# Altium integrated library TI Power Management Linear Regulator Single Channel LDO (0-350mA).IntLib: 1648 symbols (part 17 of 66)
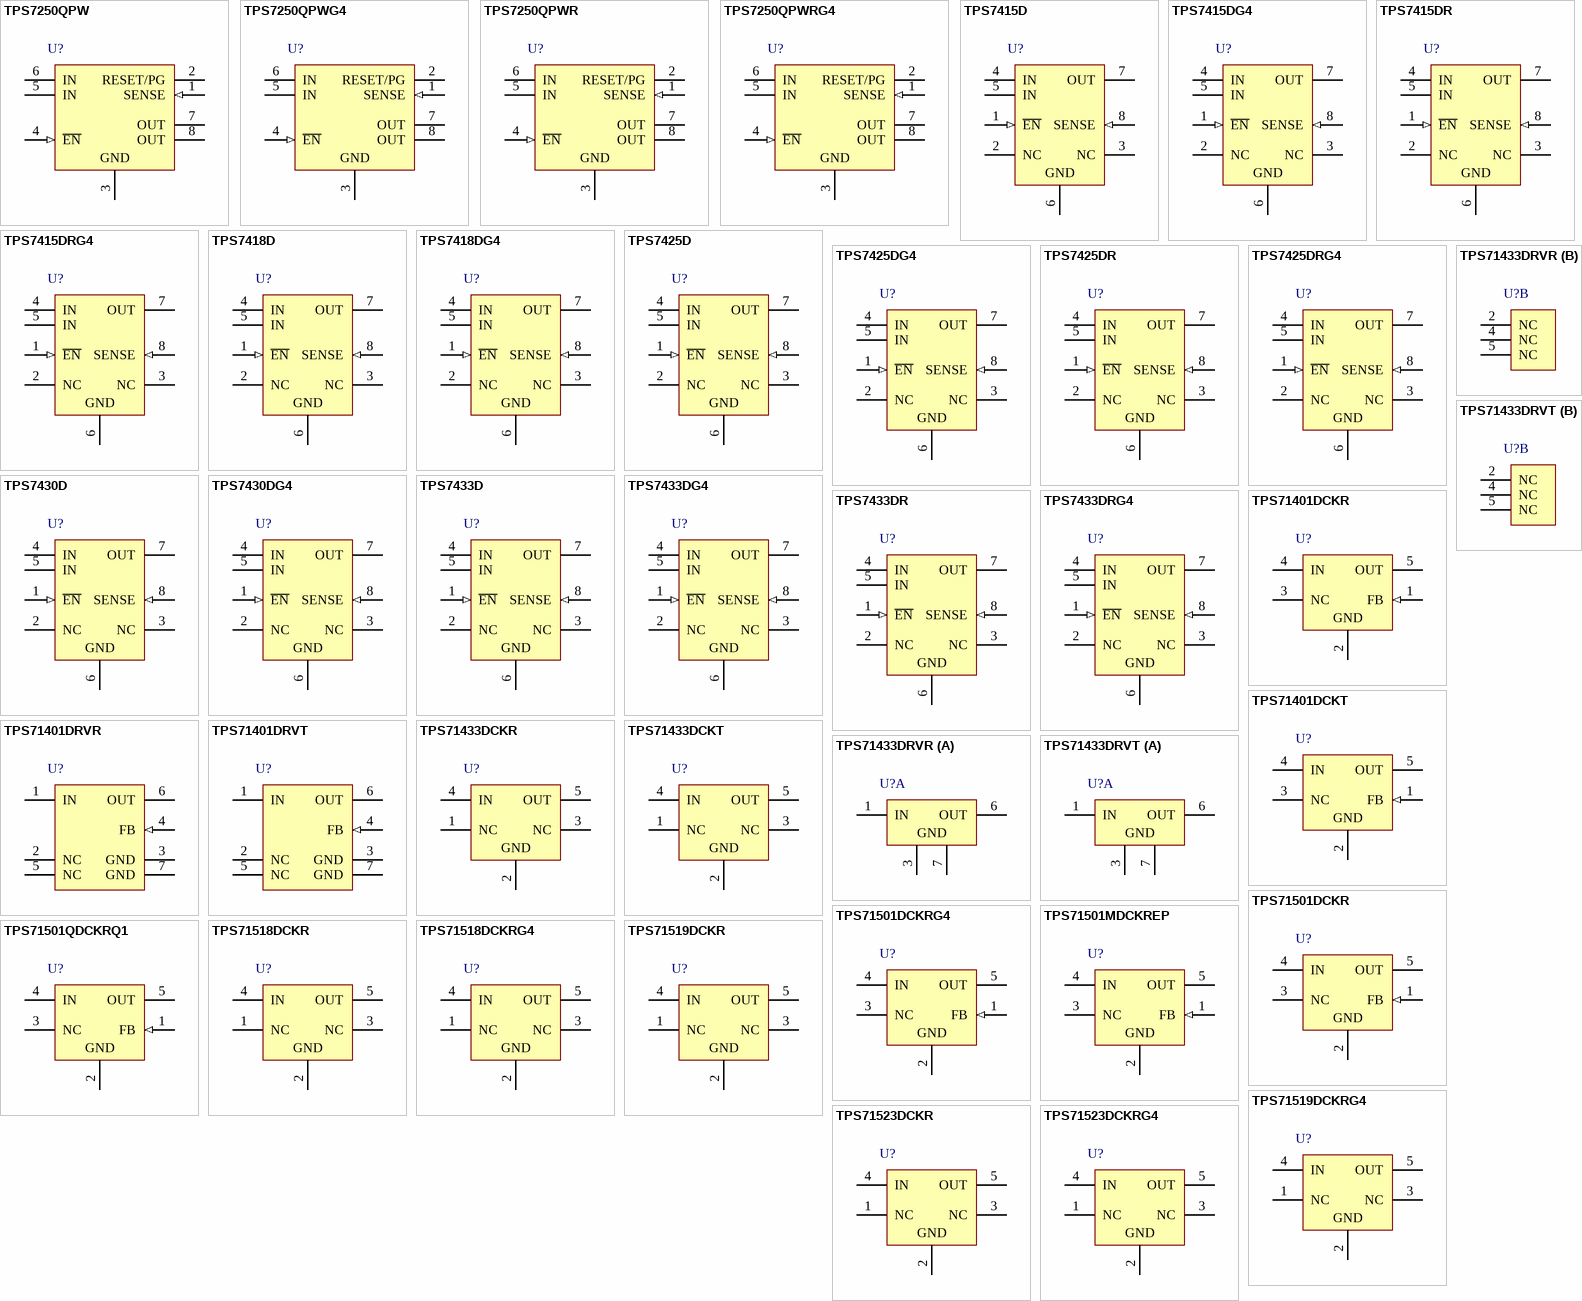
[diagram p58: symbols TPS7250QPW to TPS71523DCKRG4]

## TPS71401DRVR
designator U?
Single Output LDO, 80 mA, Adjustable 1.2 to 8.8 V Output, 2.5 to 10 V Input, with Low IQ, 6-pin SON (DRV), -40 to 125 degC, Green (RoHS & no Sb/Br); Manufacturer: Texas Instruments; PartNumber: TPS71401DRVR; Accuracy(%): 4; Fixed Output Options(V): 3.3; Iout(Max)(A): 0.08; Iq(Typ)(mA): 0.003; Rating: Catalog; SubFamily: Single Channel LDO; Vdo(Typ)(mV): 670; Vin(Max)(V): 10; Vin(Min)(V): 2.5; Vout Adj(Max)(V): 8.8; Vout Adj(Min)(V): 1.2; DatasheetVersion: SBVS116C; PackageVersion: 4206925/E; PackageReference: DRV6-1600X1000TP; PackageDescription: 6-Pin Plastic Small Outline No-Lead, Body 2 x 2 mm, Pitch 0.65 mm; Supplier 1: Digi-Key; Supplier Part Number 1: 296-24039-2-ND; Supplier 2: Digi-Key; Supplier Part Number 2: 296-24039-1-ND; Supplier 3: Digi-Key; Supplier Part Number 3: 296-24039-6-ND; Supplier 4: Mouser; Supplier Part Number 4: 595-TPS71401DRVR; Eco-Plan: Green (RoHS & no Sb/Br); Mounting Technology: Surface Mount; ComponentLink1Description: Manufacturer URL; ComponentLink1URL: http://www.ti.com/; ComponentLink2Description: Datasheet; ComponentLink2URL: http://www.ti.com/general/docs/lit/getliterature.tsp?genericPartNumber=TPS71401&fileType=pdf; ComponentLink3Description: Package Specification; ComponentLink3URL: http://www.ti.com/litv/pdf/mpds216d; ComponentLink4Description: URL Link1; ComponentLink4URL: Samples URL:http://www.ti.com/product/tps71401#samples
footprint TI-DRV6-1600X1000TP_V (SON, 6-Leads, Body 2x2mm, Pitch 0.65mm, Thermal Pad 1X1.6mm)
pins: 1 IN (power) "Unregulated input voltage.", 2 NC "No connection. May be left open or tied to ground for improved thermal performance.", 3 GND (power) "Ground", 4 FB (in) "Adjustable version only. This pin is used to set the output voltage.", 5 NC "No connection. May be left open or tied to ground for improved thermal performance.", 6 OUT (power) "Regulated output voltage. Any output capacitor >= 0.47uF can be used for stability.", 7 GND (power) "Ground"

## TPS71401DRVT
designator U?
Single Output LDO, 80 mA, Adjustable 1.2 to 8.8 V Output, 2.5 to 10 V Input, with Low IQ, 6-pin SON (DRV), -40 to 125 degC, Green (RoHS & no Sb/Br); Manufacturer: Texas Instruments; PartNumber: TPS71401DRVT; Accuracy(%): 4; Fixed Output Options(V): 3.3; Iout(Max)(A): 0.08; Iq(Typ)(mA): 0.003; Rating: Catalog; SubFamily: Single Channel LDO; Vdo(Typ)(mV): 670; Vin(Max)(V): 10; Vin(Min)(V): 2.5; Vout Adj(Max)(V): 8.8; Vout Adj(Min)(V): 1.2; DatasheetVersion: SBVS116C; PackageVersion: 4206925/E; PackageReference: DRV6-1600X1000TP; PackageDescription: 6-Pin Plastic Small Outline No-Lead, Body 2 x 2 mm, Pitch 0.65 mm; Supplier 1: Digi-Key; Supplier Part Number 1: 296-32531-2-ND; Supplier 2: Digi-Key; Supplier Part Number 2: 296-32531-1-ND; Supplier 3: Digi-Key; Supplier Part Number 3: 296-32531-6-ND; Supplier 4: Newark; Supplier Part Number 4: 45P2942; Supplier 5: Mouser; Supplier Part Number 5: 595-TPS71401DRVT; Eco-Plan: Green (RoHS & no Sb/Br); Mounting Technology: Surface Mount; ComponentLink1Description: Manufacturer URL; ComponentLink1URL: http://www.ti.com/; ComponentLink2Description: Datasheet; ComponentLink2URL: http://www.ti.com/general/docs/lit/getliterature.tsp?genericPartNumber=TPS71401&fileType=pdf; ComponentLink3Description: Package Specification; ComponentLink3URL: http://www.ti.com/litv/pdf/mpds216d; ComponentLink4Description: URL Link1; ComponentLink4URL: Samples URL:http://www.ti.com/product/tps71401#samples
footprint TI-DRV6-1600X1000TP_V (SON, 6-Leads, Body 2x2mm, Pitch 0.65mm, Thermal Pad 1X1.6mm)
pins: 1 IN (power) "Unregulated input voltage.", 2 NC "No connection. May be left open or tied to ground for improved thermal performance.", 3 GND (power) "Ground", 4 FB (in) "Adjustable version only. This pin is used to set the output voltage.", 5 NC "No connection. May be left open or tied to ground for improved thermal performance.", 6 OUT (power) "Regulated output voltage. Any output capacitor >= 0.47uF can be used for stability.", 7 GND (power) "Ground"

## TPS71433DCKR
designator U?
Single Output LDO, 80 mA, Fixed 3.3 V Output, 2.5 to 10 V Input, with Low IQ, 5-pin SC70 (DCK), -40 to 125 degC, Green (RoHS & no Sb/Br); Manufacturer: Texas Instruments; PartNumber: TPS71433DCKR; Accuracy(%): 4; Fixed Output Options(V): 3.3; Iout(Max)(A): 0.08; Iq(Typ)(mA): 0.003; Rating: Catalog; SubFamily: Single Channel LDO; Vdo(Typ)(mV): 670; Vin(Max)(V): 10; Vin(Min)(V): 2.5; DatasheetVersion: SBVS116C; PackageVersion: 4093553-3/G; PackageReference: DCK5; PackageDescription: 5-Pin Plastic Small-Outline, Body 2 x 1.25 mm, Pitch 0.65 mm; Supplier 1: Digi-Key; Supplier Part Number 1: TPS71433DCKR-ND; Supplier 2: Mouser; Supplier Part Number 2: 595-TPS71433DCKR; Eco-Plan: Green (RoHS & no Sb/Br); Vout Adj(Max)(V): 3.3; Vout Adj(Min)(V): 3.3; Mounting Technology: Surface Mount; Code_JEDEC: MO-203; ComponentLink1Description: Manufacturer URL; ComponentLink1URL: http://www.ti.com/; ComponentLink2Description: Datasheet; ComponentLink2URL: http://www.ti.com/general/docs/lit/getliterature.tsp?genericPartNumber=TPS71433&fileType=pdf; ComponentLink3Description: Package Specification; ComponentLink3URL: http://www.ti.com/litv/pdf/mpds025f; ComponentLink4Description: URL Link1; ComponentLink4URL: Samples URL:http://www.ti.com/product/tps71433#samples
footprint TI-DCK5_V (SOT23, 5-Leads, Body 2x1.25mm, Pitch 0.65mm)
pins: 1 NC "No connection", 2 GND (power) "Ground", 3 NC "No connection", 4 IN (power) "Input supply", 5 OUT (power) "Output of the regulator, any output capacitor >= 0.47 uF can be used for stability."

## TPS71433DCKT
designator U?
Single Output LDO, 80 mA, Fixed 3.3 V Output, 2.5 to 10 V Input, with Low IQ, 5-pin SC70 (DCK), -40 to 125 degC, Green (RoHS & no Sb/Br); Manufacturer: Texas Instruments; PartNumber: TPS71433DCKT; Accuracy(%): 4; Fixed Output Options(V): 3.3; Iout(Max)(A): 0.08; Iq(Typ)(mA): 0.003; Rating: Catalog; SubFamily: Single Channel LDO; Vdo(Typ)(mV): 670; Vin(Max)(V): 10; Vin(Min)(V): 2.5; DatasheetVersion: SBVS116C; PackageVersion: 4093553-3/G; PackageReference: DCK5; PackageDescription: 5-Pin Plastic Small-Outline, Body 2 x 1.25 mm, Pitch 0.65 mm; Supplier 1: Digi-Key; Supplier Part Number 1: 296-24451-2-ND; Supplier 2: Digi-Key; Supplier Part Number 2: 296-24451-1-ND; Supplier 3: Digi-Key; Supplier Part Number 3: 296-24451-6-ND; Supplier 4: Newark; Supplier Part Number 4: 09R6697; Supplier 5: Mouser; Supplier Part Number 5: 595-TPS71433DCKT; Eco-Plan: Green (RoHS & no Sb/Br); Vout Adj(Max)(V): 3.3; Vout Adj(Min)(V): 3.3; Mounting Technology: Surface Mount; Code_JEDEC: MO-203; ComponentLink1Description: Manufacturer URL; ComponentLink1URL: http://www.ti.com/; ComponentLink2Description: Datasheet; ComponentLink2URL: http://www.ti.com/general/docs/lit/getliterature.tsp?genericPartNumber=TPS71433&fileType=pdf; ComponentLink3Description: Package Specification; ComponentLink3URL: http://www.ti.com/litv/pdf/mpds025f; ComponentLink4Description: URL Link1; ComponentLink4URL: Samples URL:http://www.ti.com/product/tps71433#samples
footprint TI-DCK5_V (SOT23, 5-Leads, Body 2x1.25mm, Pitch 0.65mm)
pins: 1 NC "No connection", 2 GND (power) "Ground", 3 NC "No connection", 4 IN (power) "Input supply", 5 OUT (power) "Output of the regulator, any output capacitor >= 0.47 uF can be used for stability."

## TPS71433DRVR
designator U?
Single Output LDO, 80 mA, Fixed 3.3 V Output, 2.5 to 10 V Input, with Low IQ, 6-pin SON (DRV), -40 to 125 degC, Green (RoHS & no Sb/Br); Manufacturer: Texas Instruments; PartNumber: TPS71433DRVR; Accuracy(%): 4; Fixed Output Options(V): 3.3; Iout(Max)(A): 0.08; Iq(Typ)(mA): 0.003; Rating: Catalog; SubFamily: Single Channel LDO; Vdo(Typ)(mV): 670; Vin(Max)(V): 10; Vin(Min)(V): 2.5; DatasheetVersion: SBVS116C; PackageVersion: 4206925/E; PackageReference: DRV6-1600X1000TP; PackageDescription: 6-Pin Plastic Small Outline No-Lead, Body 2 x 2 mm, Pitch 0.65 mm; Supplier 1: Digi-Key; Supplier Part Number 1: 296-24040-2-ND; Supplier 2: Digi-Key; Supplier Part Number 2: 296-24040-1-ND; Supplier 3: Digi-Key; Supplier Part Number 3: 296-24040-6-ND; Supplier 4: Newark; Supplier Part Number 4: 45P8294; Supplier 5: Mouser; Supplier Part Number 5: 595-TPS71433DRVR; Eco-Plan: Green (RoHS & no Sb/Br); Vout Adj(Max)(V): 3.3; Vout Adj(Min)(V): 3.3; Mounting Technology: Surface Mount; ComponentLink1Description: Manufacturer URL; ComponentLink1URL: http://www.ti.com/; ComponentLink2Description: Datasheet; ComponentLink2URL: http://www.ti.com/general/docs/lit/getliterature.tsp?genericPartNumber=TPS71433&fileType=pdf; ComponentLink3Description: Package Specification; ComponentLink3URL: http://www.ti.com/litv/pdf/mpds216d; ComponentLink4Description: URL Link1; ComponentLink4URL: Samples URL:http://www.ti.com/product/tps71433#samples
footprint TI-DRV6-1600X1000TP_V (SON, 6-Leads, Body 2x2mm, Pitch 0.65mm, Thermal Pad 1X1.6mm)
part A pins: 1 IN (power) "Unregulated input voltage.", 3 GND (power) "Ground", 6 OUT (power) "Regulated output voltage, any output capacitor >= 0.47uF can be used for stability.", 7 GND (power) "Ground"
part B pins: 2 NC "No connection. May be left open or tied to ground for improved thermal performance.", 4 NC "No connection. May be left open or tied to Ground for improved thermal performance.", 5 NC "No connection. May be left open or tied to ground for improved thermal performance."

## TPS71433DRVT
designator U?
Single Output LDO, 80 mA, Fixed 3.3 V Output, 2.5 to 10 V Input, with Low IQ, 6-pin SON (DRV), -40 to 125 degC, Green (RoHS & no Sb/Br); Manufacturer: Texas Instruments; PartNumber: TPS71433DRVT; Accuracy(%): 4; Fixed Output Options(V): 3.3; Iout(Max)(A): 0.08; Iq(Typ)(mA): 0.003; Rating: Catalog; SubFamily: Single Channel LDO; Vdo(Typ)(mV): 670; Vin(Max)(V): 10; Vin(Min)(V): 2.5; DatasheetVersion: SBVS116C; PackageVersion: 4206925/E; PackageReference: DRV6-1600X1000TP; PackageDescription: 6-Pin Plastic Small Outline No-Lead, Body 2 x 2 mm, Pitch 0.65 mm; Supplier 1: Digi-Key; Supplier Part Number 1: 296-32532-2-ND; Supplier 2: Digi-Key; Supplier Part Number 2: 296-32532-1-ND; Supplier 3: Digi-Key; Supplier Part Number 3: 296-32532-6-ND; Supplier 4: Farnell; Supplier Part Number 4: 1694435RL; Supplier 5: Farnell; Supplier Part Number 5: 1694435; Supplier 6: Newark; Supplier Part Number 6: 45P2943; Supplier 7: Mouser; Supplier Part Number 7: 595-TPS71433DRVT; Eco-Plan: Green (RoHS & no Sb/Br); Vout Adj(Max)(V): 3.3; Vout Adj(Min)(V): 3.3; Mounting Technology: Surface Mount; ComponentLink1Description: Manufacturer URL; ComponentLink1URL: http://www.ti.com/; ComponentLink2Description: Datasheet; ComponentLink2URL: http://www.ti.com/general/docs/lit/getliterature.tsp?genericPartNumber=TPS71433&fileType=pdf; ComponentLink3Description: Package Specification; ComponentLink3URL: http://www.ti.com/litv/pdf/mpds216d; ComponentLink4Description: URL Link1; ComponentLink4URL: Samples URL:http://www.ti.com/product/tps71433#samples
footprint TI-DRV6-1600X1000TP_V (SON, 6-Leads, Body 2x2mm, Pitch 0.65mm, Thermal Pad 1X1.6mm)
part A pins: 1 IN (power) "Unregulated input voltage.", 3 GND (power) "Ground", 6 OUT (power) "Regulated output voltage, any output capacitor >= 0.47uF can be used for stability.", 7 GND (power) "Ground"
part B pins: 2 NC "No connection. May be left open or tied to ground for improved thermal performance.", 4 NC "No connection. May be left open or tied to Ground for improved thermal performance.", 5 NC "No connection. May be left open or tied to ground for improved thermal performance."

## TPS71501DCKR
designator U?
Single Output LDO, 50 mA, Adjustable 1.2 to 15 V Output, 3 to 24 V Input, 5-pin SC70 (DCK), -40 to 125 degC, Green (RoHS & no Sb/Br); Manufacturer: Texas Instruments; PartNumber: TPS71501DCKR; Accuracy(%): 4; Iout(Max)(A): 0.05; Iq(Typ)(mA): 0.003; SubFamily: Single Channel LDO; Vdo(Typ)(mV): 415; Vin(Max)(V): 24; Vin(Min)(V): 3; Vout Adj(Max)(V): 15; Vout Adj(Min)(V): 1.2; DatasheetVersion: SLVS338P; PackageVersion: 4093553-3/G; PackageReference: DCK5; PackageDescription: 5-Pin Plastic Small-Outline, Body 2 x 1.25 mm, Pitch 0.65 mm; Supplier 1: Digi-Key; Supplier Part Number 1: 296-12957-2-ND; Supplier 2: Digi-Key; Supplier Part Number 2: 296-12957-1-ND; Supplier 3: Digi-Key; Supplier Part Number 3: 296-12957-6-ND; Supplier 4: Farnell; Supplier Part Number 4: 1103056RL; Supplier 5: Farnell; Supplier Part Number 5: 1103056; Supplier 6: Newark; Supplier Part Number 6: 36K7664; Supplier 7: Mouser; Supplier Part Number 7: 595-TPS71501DCKR; Eco-Plan: Green (RoHS & no Sb/Br); Mounting Technology: Surface Mount; Code_JEDEC: MO-203; ComponentLink1Description: Manufacturer URL; ComponentLink1URL: http://www.ti.com/; ComponentLink2Description: Datasheet; ComponentLink2URL: http://www.ti.com/general/docs/lit/getliterature.tsp?genericPartNumber=TPS71501&fileType=pdf; ComponentLink3Description: Package Specification; ComponentLink3URL: http://www.ti.com/litv/pdf/mpds025f
footprint TI-DCK5_V (SOT23, 5-Leads, Body 2x1.25mm, Pitch 0.65mm)
pins: 1 FB (in) "Feedback. This terminal is used to set the output voltage.", 2 GND (power) "Ground", 3 NC "No connection", 4 IN (power) "Input supply", 5 OUT (power) "Output of the regulator, any output capacitor >= 0.47 uF can be used for stability."

## TPS71501DCKRG4
designator U?
Single Output LDO, 50 mA, Adjustable 1.2 to 15 V Output, 3 to 24 V Input, 5-pin SC70 (DCK), -40 to 125 degC, Green (RoHS & no Sb/Br); Manufacturer: Texas Instruments; PartNumber: TPS71501DCKRG4; Accuracy(%): 4; Iout(Max)(A): 0.05; Iq(Typ)(mA): 0.003; SubFamily: Single Channel LDO; Vdo(Typ)(mV): 415; Vin(Max)(V): 24; Vin(Min)(V): 3; Vout Adj(Max)(V): 15; Vout Adj(Min)(V): 1.2; DatasheetVersion: SLVS338P; PackageVersion: 4093553-3/G; PackageReference: DCK5; PackageDescription: 5-Pin Plastic Small-Outline, Body 2 x 1.25 mm, Pitch 0.65 mm; Supplier 1: Digi-Key; Supplier Part Number 1: TPS71501DCKRG4-ND; Supplier 2: Newark; Supplier Part Number 2: 71J8222; Supplier 3: Mouser; Supplier Part Number 3: 595-TPS71501DCKRG4; Eco-Plan: Green (RoHS & no Sb/Br); Mounting Technology: Surface Mount; Code_JEDEC: MO-203; ComponentLink1Description: Manufacturer URL; ComponentLink1URL: http://www.ti.com/; ComponentLink2Description: Datasheet; ComponentLink2URL: http://www.ti.com/general/docs/lit/getliterature.tsp?genericPartNumber=TPS71501&fileType=pdf; ComponentLink3Description: Package Specification; ComponentLink3URL: http://www.ti.com/litv/pdf/mpds025f
footprint TI-DCK5_V (SOT23, 5-Leads, Body 2x1.25mm, Pitch 0.65mm)
pins: 1 FB (in) "Feedback. This terminal is used to set the output voltage.", 2 GND (power) "Ground", 3 NC "No connection", 4 IN (power) "Input supply", 5 OUT (power) "Output of the regulator, any output capacitor >= 0.47 uF can be used for stability."

## TPS71501MDCKREP
designator U?
Single Output LDO, 50 mA, Adjustable 1.2 to 15 V Output, 3 to 24 V Input, 5-pin SC70 (DCK), -55 to 125 degC, Green (RoHS & no Sb/Br); Manufacturer: Texas Instruments; PartNumber: TPS71501MDCKREP; Accuracy(%): 4; Iout(Max)(A): 0.05; Iq(Typ)(mA): 0.003; SubFamily: Single Channel LDO; Vdo(Typ)(mV): 415; Vin(Max)(V): 24; Vin(Min)(V): 3; Vout Adj(Max)(V): 15; Vout Adj(Min)(V): 1.2; DatasheetVersion: SGLS396; PackageVersion: 4093553-3/G; PackageReference: DCK5; PackageDescription: 5-Pin Plastic Small-Outline, Body 2 x 1.25 mm, Pitch 0.65 mm; Supplier 1: Arrow; Supplier Part Number 1: 46898286S8191864N2415; Supplier 2: Digi-Key; Supplier Part Number 2: 296-23787-2-ND; Supplier 3: Digi-Key; Supplier Part Number 3: 296-23787-1-ND; Supplier 4: Digi-Key; Supplier Part Number 4: 296-23787-6-ND; Supplier 5: Newark; Supplier Part Number 5: 79R8605; Supplier 6: Mouser; Supplier Part Number 6: 595-TPS71501MDCKREP; Eco-Plan: Green (RoHS & no Sb/Br); Mounting Technology: Surface Mount; Code_JEDEC: MO-203; ComponentLink1Description: Manufacturer URL; ComponentLink1URL: http://www.ti.com/; ComponentLink2Description: Datasheet; ComponentLink2URL: http://www.ti.com/general/docs/lit/getliterature.tsp?genericPartNumber=TPS71501-EP&fileType=pdf; ComponentLink3Description: Package Specification; ComponentLink3URL: http://www.ti.com/litv/pdf/mpds025f
footprint TI-DCK5_V (SOT23, 5-Leads, Body 2x1.25mm, Pitch 0.65mm)
pins: 1 FB (in) "Feedback. This terminal is used to set the output voltage.", 2 GND (power) "Ground", 3 NC "No connection", 4 IN (power) "Input supply", 5 OUT (power) "Output of the regulator, any output capacitor >= 0.47 uF can be used for stability."

## TPS71501QDCKRQ1
designator U?
Single Output Automotive LDO, 50 mA, Adjustable 1.2 to 15 V Output, 3 to 24 V Input, 5-pin SC70 (DCK), -40 to 125 degC, Green (RoHS & no Sb/Br); Manufacturer: Texas Instruments; PartNumber: TPS71501QDCKRQ1; Accuracy(%): 4; Iout(Max)(A): 0.05; Iq(Typ)(mA): 0.003; SubFamily: Single Channel LDO; Vdo(Typ)(mV): 415; Vin(Max)(V): 24; Vin(Min)(V): 3; Vout Adj(Max)(V): 15; Vout Adj(Min)(V): 1.2; DatasheetVersion: SGLS272F; PackageVersion: 4093553-3/G; PackageReference: DCK5; PackageDescription: 5-Pin Plastic Small-Outline, Body 2 x 1.25 mm, Pitch 0.65 mm; Supplier 1: Digi-Key; Supplier Part Number 1: 296-17748-2-ND; Supplier 2: Digi-Key; Supplier Part Number 2: 296-17748-1-ND; Supplier 3: Digi-Key; Supplier Part Number 3: 296-17748-6-ND; Supplier 4: Newark; Supplier Part Number 4: 73J8406; Supplier 5: Mouser; Supplier Part Number 5: 595-TPS71501QDCKRQ1; Eco-Plan: Green (RoHS & no Sb/Br); Mounting Technology: Surface Mount; Code_JEDEC: MO-203; ComponentLink1Description: Manufacturer URL; ComponentLink1URL: http://www.ti.com/; ComponentLink2Description: Datasheet; ComponentLink2URL: http://www.ti.com/general/docs/lit/getliterature.tsp?genericPartNumber=TPS71501-Q1&fileType=pdf; ComponentLink3Description: Package Specification; ComponentLink3URL: http://www.ti.com/litv/pdf/mpds025f
footprint TI-DCK5_V (SOT23, 5-Leads, Body 2x1.25mm, Pitch 0.65mm)
pins: 1 FB (in) "Feedback. This terminal is used to set the output voltage.", 2 GND (power) "Ground", 3 NC "No connection", 4 IN (power) "Input supply", 5 OUT (power) "Output of the regulator, any output capacitor >= 0.47 uF can be used for stability."

## TPS71518DCKR
designator U?
Single Output LDO, 50 mA, Fixed 1.8 V Output, 3 to 24 V Input, 5-pin SC70 (DCK), -40 to 85 degC, Green (RoHS & no Sb/Br); Manufacturer: Texas Instruments; PartNumber: TPS71518DCKR; Accuracy(%): 4; Fixed Output Options(V): 1.8; Iout(Max)(A): 0.05; Iq(Typ)(mA): 0.003; SubFamily: Single Channel LDO; Vdo(Typ)(mV): 415; Vin(Max)(V): 24; Vin(Min)(V): 3; DatasheetVersion: SLVS338P; PackageVersion: 4093553-3/G; PackageReference: DCK5; PackageDescription: 5-Pin Plastic Small-Outline, Body 2 x 1.25 mm, Pitch 0.65 mm; Supplier 1: Digi-Key; Supplier Part Number 1: 296-18731-2-ND; Supplier 2: Digi-Key; Supplier Part Number 2: 296-18731-1-ND; Supplier 3: Digi-Key; Supplier Part Number 3: 296-18731-6-ND; Supplier 4: Newark; Supplier Part Number 4: 61K1908; Supplier 5: Mouser; Supplier Part Number 5: 595-TPS71518DCKR; Eco-Plan: Green (RoHS & no Sb/Br); Vout Adj(Max)(V): 1.8; Vout Adj(Min)(V): 1.8; Mounting Technology: Surface Mount; Code_JEDEC: MO-203; ComponentLink1Description: Manufacturer URL; ComponentLink1URL: http://www.ti.com/; ComponentLink2Description: Datasheet; ComponentLink2URL: http://www.ti.com/general/docs/lit/getliterature.tsp?genericPartNumber=TPS71518&fileType=pdf; ComponentLink3Description: Package Specification; ComponentLink3URL: http://www.ti.com/litv/pdf/mpds025f
footprint TI-DCK5_V (SOT23, 5-Leads, Body 2x1.25mm, Pitch 0.65mm)
pins: 1 NC "No connection", 2 GND (power) "Ground", 3 NC "No connection", 4 IN (power) "Input supply", 5 OUT (power) "Output of the regulator, any output capacitor >= 0.47 uF can be used for stability."

## TPS71518DCKRG4
designator U?
Single Output LDO, 50 mA, Fixed 1.8 V Output, 3 to 24 V Input, 5-pin SC70 (DCK), -40 to 85 degC, Green (RoHS & no Sb/Br); Manufacturer: Texas Instruments; PartNumber: TPS71518DCKRG4; Accuracy(%): 4; Fixed Output Options(V): 1.8; Iout(Max)(A): 0.05; Iq(Typ)(mA): 0.003; SubFamily: Single Channel LDO; Vdo(Typ)(mV): 415; Vin(Max)(V): 24; Vin(Min)(V): 3; DatasheetVersion: SLVS338P; PackageVersion: 4093553-3/G; PackageReference: DCK5; PackageDescription: 5-Pin Plastic Small-Outline, Body 2 x 1.25 mm, Pitch 0.65 mm; Supplier 1: Digi-Key; Supplier Part Number 1: TPS71518DCKRG4-ND; Supplier 2: Mouser; Supplier Part Number 2: 595-TPS71518DCKRG4; Eco-Plan: Green (RoHS & no Sb/Br); Vout Adj(Max)(V): 1.8; Vout Adj(Min)(V): 1.8; Mounting Technology: Surface Mount; Code_JEDEC: MO-203; ComponentLink1Description: Manufacturer URL; ComponentLink1URL: http://www.ti.com/; ComponentLink2Description: Datasheet; ComponentLink2URL: http://www.ti.com/general/docs/lit/getliterature.tsp?genericPartNumber=TPS71518&fileType=pdf; ComponentLink3Description: Package Specification; ComponentLink3URL: http://www.ti.com/litv/pdf/mpds025f
footprint TI-DCK5_V (SOT23, 5-Leads, Body 2x1.25mm, Pitch 0.65mm)
pins: 1 NC "No connection", 2 GND (power) "Ground", 3 NC "No connection", 4 IN (power) "Input supply", 5 OUT (power) "Output of the regulator, any output capacitor >= 0.47 uF can be used for stability."

## TPS71519DCKR
designator U?
Single Output LDO, 50 mA, Fixed 1.9 V Output, 3 to 24 V Input, 5-pin SC70 (DCK), -40 to 85 degC, Green (RoHS & no Sb/Br); Manufacturer: Texas Instruments; PartNumber: TPS71519DCKR; Accuracy(%): 4; Fixed Output Options(V): 1.9; Iout(Max)(A): 0.05; Iq(Typ)(mA): 0.003; SubFamily: Single Channel LDO; Vdo(Typ)(mV): 415; Vin(Max)(V): 24; Vin(Min)(V): 3; DatasheetVersion: SLVS338P; PackageVersion: 4093553-3/G; PackageReference: DCK5; PackageDescription: 5-Pin Plastic Small-Outline, Body 2 x 1.25 mm, Pitch 0.65 mm; Supplier 1: Digi-Key; Supplier Part Number 1: 296-19479-2-ND; Supplier 2: Digi-Key; Supplier Part Number 2: 296-19479-1-ND; Supplier 3: Digi-Key; Supplier Part Number 3: 296-19479-6-ND; Supplier 4: Newark; Supplier Part Number 4: 75K1624; Supplier 5: Mouser; Supplier Part Number 5: 595-TPS71519DCKR; Eco-Plan: Green (RoHS & no Sb/Br); Vout Adj(Max)(V): 1.9; Vout Adj(Min)(V): 1.9; Mounting Technology: Surface Mount; Code_JEDEC: MO-203; ComponentLink1Description: Manufacturer URL; ComponentLink1URL: http://www.ti.com/; ComponentLink2Description: Datasheet; ComponentLink2URL: http://www.ti.com/general/docs/lit/getliterature.tsp?genericPartNumber=TPS71519&fileType=pdf; ComponentLink3Description: Package Specification; ComponentLink3URL: http://www.ti.com/litv/pdf/mpds025f
footprint TI-DCK5_V (SOT23, 5-Leads, Body 2x1.25mm, Pitch 0.65mm)
pins: 1 NC "No connection", 2 GND (power) "Ground", 3 NC "No connection", 4 IN (power) "Input supply", 5 OUT (power) "Output of the regulator, any output capacitor >= 0.47 uF can be used for stability."

## TPS71519DCKRG4
designator U?
Single Output LDO, 50 mA, Fixed 1.9 V Output, 3 to 24 V Input, 5-pin SC70 (DCK), -40 to 85 degC, Green (RoHS & no Sb/Br); Manufacturer: Texas Instruments; PartNumber: TPS71519DCKRG4; Accuracy(%): 4; Fixed Output Options(V): 1.9; Iout(Max)(A): 0.05; Iq(Typ)(mA): 0.003; SubFamily: Single Channel LDO; Vdo(Typ)(mV): 415; Vin(Max)(V): 24; Vin(Min)(V): 3; DatasheetVersion: SLVS338P; PackageVersion: 4093553-3/G; PackageReference: DCK5; PackageDescription: 5-Pin Plastic Small-Outline, Body 2 x 1.25 mm, Pitch 0.65 mm; Supplier 1: Digi-Key; Supplier Part Number 1: TPS71519DCKRG4-ND; Supplier 2: Newark; Supplier Part Number 2: 80K3429; Supplier 3: Mouser; Supplier Part Number 3: 595-TPS71519DCKRG4; Eco-Plan: Green (RoHS & no Sb/Br); Vout Adj(Max)(V): 1.9; Vout Adj(Min)(V): 1.9; Mounting Technology: Surface Mount; Code_JEDEC: MO-203; ComponentLink1Description: Manufacturer URL; ComponentLink1URL: http://www.ti.com/; ComponentLink2Description: Datasheet; ComponentLink2URL: http://www.ti.com/general/docs/lit/getliterature.tsp?genericPartNumber=TPS71519&fileType=pdf; ComponentLink3Description: Package Specification; ComponentLink3URL: http://www.ti.com/litv/pdf/mpds025f
footprint TI-DCK5_V (SOT23, 5-Leads, Body 2x1.25mm, Pitch 0.65mm)
pins: 1 NC "No connection", 2 GND (power) "Ground", 3 NC "No connection", 4 IN (power) "Input supply", 5 OUT (power) "Output of the regulator, any output capacitor >= 0.47 uF can be used for stability."

## TPS71523DCKR
designator U?
Single Output LDO, 50 mA, Fixed 2.3 V Output, 3 to 24 V Input, 5-pin SC70 (DCK), -40 to 85 degC, Green (RoHS & no Sb/Br); Manufacturer: Texas Instruments; PartNumber: TPS71523DCKR; Accuracy(%): 4; Fixed Output Options(V): 2.3; Iout(Max)(A): 0.05; Iq(Typ)(mA): 0.003; SubFamily: Single Channel LDO; Vdo(Typ)(mV): 415; Vin(Max)(V): 24; Vin(Min)(V): 3; DatasheetVersion: SLVS338P; PackageVersion: 4093553-3/G; PackageReference: DCK5; PackageDescription: 5-Pin Plastic Small-Outline, Body 2 x 1.25 mm, Pitch 0.65 mm; Supplier 1: Digi-Key; Supplier Part Number 1: 296-19480-2-ND; Supplier 2: Digi-Key; Supplier Part Number 2: 296-19480-1-ND; Supplier 3: Digi-Key; Supplier Part Number 3: 296-19480-6-ND; Supplier 4: Newark; Supplier Part Number 4: 75K1625; Supplier 5: Mouser; Supplier Part Number 5: 595-TPS71523DCKR; Eco-Plan: Green (RoHS & no Sb/Br); Vout Adj(Max)(V): 2.3; Vout Adj(Min)(V): 2.3; Mounting Technology: Surface Mount; Code_JEDEC: MO-203; ComponentLink1Description: Manufacturer URL; ComponentLink1URL: http://www.ti.com/; ComponentLink2Description: Datasheet; ComponentLink2URL: http://www.ti.com/general/docs/lit/getliterature.tsp?genericPartNumber=TPS71523&fileType=pdf; ComponentLink3Description: Package Specification; ComponentLink3URL: http://www.ti.com/litv/pdf/mpds025f
footprint TI-DCK5_V (SOT23, 5-Leads, Body 2x1.25mm, Pitch 0.65mm)
pins: 1 NC "No connection", 2 GND (power) "Ground", 3 NC "No connection", 4 IN (power) "Input supply", 5 OUT (power) "Output of the regulator, any output capacitor >= 0.47 uF can be used for stability."

## TPS71523DCKRG4
designator U?
Single Output LDO, 50 mA, Fixed 2.3 V Output, 3 to 24 V Input, 5-pin SC70 (DCK), -40 to 85 degC, Green (RoHS & no Sb/Br); Manufacturer: Texas Instruments; PartNumber: TPS71523DCKRG4; Accuracy(%): 4; Fixed Output Options(V): 2.3; Iout(Max)(A): 0.05; Iq(Typ)(mA): 0.003; SubFamily: Single Channel LDO; Vdo(Typ)(mV): 415; Vin(Max)(V): 24; Vin(Min)(V): 3; DatasheetVersion: SLVS338P; PackageVersion: 4093553-3/G; PackageReference: DCK5; PackageDescription: 5-Pin Plastic Small-Outline, Body 2 x 1.25 mm, Pitch 0.65 mm; Supplier 1: Digi-Key; Supplier Part Number 1: TPS71523DCKRG4-ND; Supplier 2: Mouser; Supplier Part Number 2: 595-TPS71523DCKRG4; Eco-Plan: Green (RoHS & no Sb/Br); Vout Adj(Max)(V): 2.3; Vout Adj(Min)(V): 2.3; Mounting Technology: Surface Mount; Code_JEDEC: MO-203; ComponentLink1Description: Manufacturer URL; ComponentLink1URL: http://www.ti.com/; ComponentLink2Description: Datasheet; ComponentLink2URL: http://www.ti.com/general/docs/lit/getliterature.tsp?genericPartNumber=TPS71523&fileType=pdf; ComponentLink3Description: Package Specification; ComponentLink3URL: http://www.ti.com/litv/pdf/mpds025f
footprint TI-DCK5_V (SOT23, 5-Leads, Body 2x1.25mm, Pitch 0.65mm)
pins: 1 NC "No connection", 2 GND (power) "Ground", 3 NC "No connection", 4 IN (power) "Input supply", 5 OUT (power) "Output of the regulator, any output capacitor >= 0.47 uF can be used for stability."

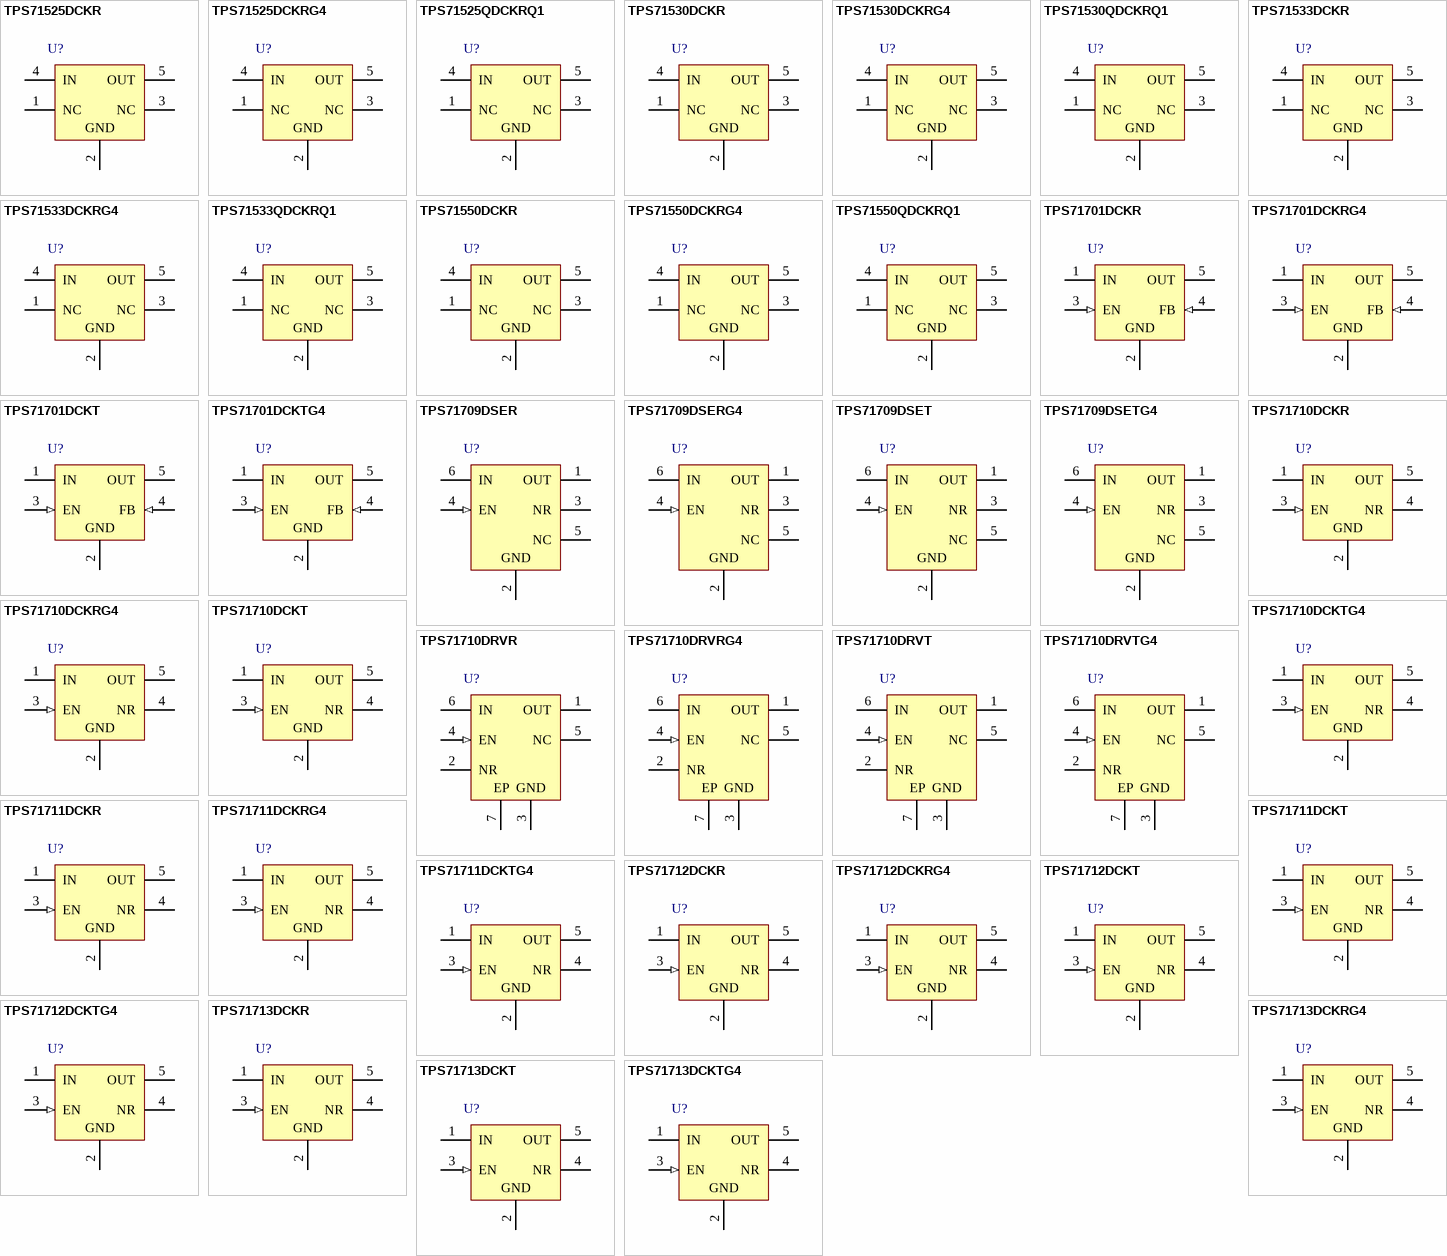
[diagram p12: symbols TPS71525DCKR to TPS71713DCKTG4]

## TPS71525DCKR
designator U?
Single Output LDO, 50 mA, Fixed 2.5 V Output, 3 to 24 V Input, 5-pin SC70 (DCK), -40 to 85 degC, Green (RoHS & no Sb/Br); Manufacturer: Texas Instruments; PartNumber: TPS71525DCKR; Accuracy(%): 4; Fixed Output Options(V): 2.5; Iout(Max)(A): 0.05; Iq(Typ)(mA): 0.003; SubFamily: Single Channel LDO; Vdo(Typ)(mV): 415; Vin(Max)(V): 24; Vin(Min)(V): 3; DatasheetVersion: SLVS338P; PackageVersion: 4093553-3/G; PackageReference: DCK5; PackageDescription: 5-Pin Plastic Small-Outline, Body 2 x 1.25 mm, Pitch 0.65 mm; Supplier 1: Digi-Key; Supplier Part Number 1: 296-12007-2-ND; Supplier 2: Digi-Key; Supplier Part Number 2: 296-12007-1-ND; Supplier 3: Digi-Key; Supplier Part Number 3: 296-12007-6-ND; Supplier 4: Farnell; Supplier Part Number 4: 1703398RL; Supplier 5: Farnell; Supplier Part Number 5: 1703398; Supplier 6: Newark; Supplier Part Number 6: 77C0814; Supplier 7: Mouser; Supplier Part Number 7: 595-TPS71525DCKR; Eco-Plan: Green (RoHS & no Sb/Br); Vout Adj(Max)(V): 2.5; Vout Adj(Min)(V): 2.5; Mounting Technology: Surface Mount; Code_JEDEC: MO-203; ComponentLink1Description: Manufacturer URL; ComponentLink1URL: http://www.ti.com/; ComponentLink2Description: Datasheet; ComponentLink2URL: http://www.ti.com/general/docs/lit/getliterature.tsp?genericPartNumber=TPS71525&fileType=pdf; ComponentLink3Description: Package Specification; ComponentLink3URL: http://www.ti.com/litv/pdf/mpds025f
footprint TI-DCK5_V (SOT23, 5-Leads, Body 2x1.25mm, Pitch 0.65mm)
pins: 1 NC "No connection", 2 GND (power) "Ground", 3 NC "No connection", 4 IN (power) "Input supply", 5 OUT (power) "Output of the regulator, any output capacitor >= 0.47 uF can be used for stability."

## TPS71525DCKRG4
designator U?
Single Output LDO, 50 mA, Fixed 2.5 V Output, 3 to 24 V Input, 5-pin SC70 (DCK), -40 to 85 degC, Green (RoHS & no Sb/Br); Manufacturer: Texas Instruments; PartNumber: TPS71525DCKRG4; Accuracy(%): 4; Fixed Output Options(V): 2.5; Iout(Max)(A): 0.05; Iq(Typ)(mA): 0.003; SubFamily: Single Channel LDO; Vdo(Typ)(mV): 415; Vin(Max)(V): 24; Vin(Min)(V): 3; DatasheetVersion: SLVS338P; PackageVersion: 4093553-3/G; PackageReference: DCK5; PackageDescription: 5-Pin Plastic Small-Outline, Body 2 x 1.25 mm, Pitch 0.65 mm; Supplier 1: Digi-Key; Supplier Part Number 1: TPS71525DCKRG4-ND; Supplier 2: Newark; Supplier Part Number 2: 24K6083; Supplier 3: Mouser; Supplier Part Number 3: 595-TPS71525DCKRG4; Eco-Plan: Green (RoHS & no Sb/Br); Vout Adj(Max)(V): 2.5; Vout Adj(Min)(V): 2.5; Mounting Technology: Surface Mount; Code_JEDEC: MO-203; ComponentLink1Description: Manufacturer URL; ComponentLink1URL: http://www.ti.com/; ComponentLink2Description: Datasheet; ComponentLink2URL: http://www.ti.com/general/docs/lit/getliterature.tsp?genericPartNumber=TPS71525&fileType=pdf; ComponentLink3Description: Package Specification; ComponentLink3URL: http://www.ti.com/litv/pdf/mpds025f
footprint TI-DCK5_V (SOT23, 5-Leads, Body 2x1.25mm, Pitch 0.65mm)
pins: 1 NC "No connection", 2 GND (power) "Ground", 3 NC "No connection", 4 IN (power) "Input supply", 5 OUT (power) "Output of the regulator, any output capacitor >= 0.47 uF can be used for stability."

## TPS71525QDCKRQ1
designator U?
Single Output Automotive LDO, 50 mA, Fixed 2.5 V Output, 3 to 24 V Input, 5-pin SC70 (DCK), -40 to 125 degC, Green (RoHS & no Sb/Br); Manufacturer: Texas Instruments; PartNumber: TPS71525QDCKRQ1; Accuracy(%): 4; Fixed Output Options(V): 2.5; Iout(Max)(A): 0.05; Iq(Typ)(mA): 0.003; SubFamily: Single Channel LDO; Vdo(Typ)(mV): 415; Vin(Max)(V): 24; Vin(Min)(V): 3; DatasheetVersion: SGLS272F; PackageVersion: 4093553-3/G; PackageReference: DCK5; PackageDescription: 5-Pin Plastic Small-Outline, Body 2 x 1.25 mm, Pitch 0.65 mm; Supplier 1: Digi-Key; Supplier Part Number 1: 296-20694-2-ND; Supplier 2: Digi-Key; Supplier Part Number 2: 296-20694-1-ND; Supplier 3: Digi-Key; Supplier Part Number 3: 296-20694-6-ND; Supplier 4: Newark; Supplier Part Number 4: 73J8407; Supplier 5: Mouser; Supplier Part Number 5: 595-TPS71525QDCKRQ1; Eco-Plan: Green (RoHS & no Sb/Br); Vout Adj(Max)(V): 2.5; Vout Adj(Min)(V): 2.5; Mounting Technology: Surface Mount; Code_JEDEC: MO-203; ComponentLink1Description: Manufacturer URL; ComponentLink1URL: http://www.ti.com/; ComponentLink2Description: Datasheet; ComponentLink2URL: http://www.ti.com/general/docs/lit/getliterature.tsp?genericPartNumber=TPS71525-Q1&fileType=pdf; ComponentLink3Description: Package Specification; ComponentLink3URL: http://www.ti.com/litv/pdf/mpds025f
footprint TI-DCK5_V (SOT23, 5-Leads, Body 2x1.25mm, Pitch 0.65mm)
pins: 1 NC "No connection", 2 GND (power) "Ground", 3 NC "No connection", 4 IN (power) "Input supply", 5 OUT (power) "Output of the regulator, any output capacitor >= 0.47 uF can be used for stability."

## TPS71530DCKR
designator U?
Single Output LDO, 50 mA, Fixed 3 V Output, 3 to 24 V Input, 5-pin SC70 (DCK), -40 to 85 degC, Green (RoHS & no Sb/Br); Manufacturer: Texas Instruments; PartNumber: TPS71530DCKR; Accuracy(%): 4; Fixed Output Options(V): 3; Iout(Max)(A): 0.05; Iq(Typ)(mA): 0.003; SubFamily: Single Channel LDO; Vdo(Typ)(mV): 415; Vin(Max)(V): 24; DatasheetVersion: SLVS338P; PackageVersion: 4093553-3/G; PackageReference: DCK5; PackageDescription: 5-Pin Plastic Small-Outline, Body 2 x 1.25 mm, Pitch 0.65 mm; Supplier 1: Digi-Key; Supplier Part Number 1: 296-15045-2-ND; Supplier 2: Digi-Key; Supplier Part Number 2: 296-15045-1-ND; Supplier 3: Digi-Key; Supplier Part Number 3: 296-15045-6-ND; Supplier 4: Farnell; Supplier Part Number 4: 1135382RL; Supplier 5: Farnell; Supplier Part Number 5: 1135382; Supplier 6: Newark; Supplier Part Number 6: 34H2503; Supplier 7: Mouser; Supplier Part Number 7: 595-TPS71530DCKR; Eco-Plan: Green (RoHS & no Sb/Br); Vin(Min)(V): 3; Vout Adj(Max)(V): 3; Vout Adj(Min)(V): 3; Mounting Technology: Surface Mount; Code_JEDEC: MO-203; ComponentLink1Description: Manufacturer URL; ComponentLink1URL: http://www.ti.com/; ComponentLink2Description: Datasheet; ComponentLink2URL: http://www.ti.com/general/docs/lit/getliterature.tsp?genericPartNumber=TPS71530&fileType=pdf; ComponentLink3Description: Package Specification; ComponentLink3URL: http://www.ti.com/litv/pdf/mpds025f
footprint TI-DCK5_V (SOT23, 5-Leads, Body 2x1.25mm, Pitch 0.65mm)
pins: 1 NC "No connection", 2 GND (power) "Ground", 3 NC "No connection", 4 IN (power) "Input supply", 5 OUT (power) "Output of the regulator, any output capacitor >= 0.47 uF can be used for stability."

## TPS71530DCKRG4
designator U?
Single Output LDO, 50 mA, Fixed 3 V Output, 3 to 24 V Input, 5-pin SC70 (DCK), -40 to 85 degC, Green (RoHS & no Sb/Br); Manufacturer: Texas Instruments; PartNumber: TPS71530DCKRG4; Accuracy(%): 4; Fixed Output Options(V): 3; Iout(Max)(A): 0.05; Iq(Typ)(mA): 0.003; SubFamily: Single Channel LDO; Vdo(Typ)(mV): 415; Vin(Max)(V): 24; DatasheetVersion: SLVS338P; PackageVersion: 4093553-3/G; PackageReference: DCK5; PackageDescription: 5-Pin Plastic Small-Outline, Body 2 x 1.25 mm, Pitch 0.65 mm; Supplier 1: Digi-Key; Supplier Part Number 1: TPS71530DCKRG4-ND; Supplier 2: Newark; Supplier Part Number 2: 54K1777; Supplier 3: Mouser; Supplier Part Number 3: 595-TPS71530DCKRG4; Eco-Plan: Green (RoHS & no Sb/Br); Vin(Min)(V): 3; Vout Adj(Max)(V): 3; Vout Adj(Min)(V): 3; Mounting Technology: Surface Mount; Code_JEDEC: MO-203; ComponentLink1Description: Manufacturer URL; ComponentLink1URL: http://www.ti.com/; ComponentLink2Description: Datasheet; ComponentLink2URL: http://www.ti.com/general/docs/lit/getliterature.tsp?genericPartNumber=TPS71530&fileType=pdf; ComponentLink3Description: Package Specification; ComponentLink3URL: http://www.ti.com/litv/pdf/mpds025f
footprint TI-DCK5_V (SOT23, 5-Leads, Body 2x1.25mm, Pitch 0.65mm)
pins: 1 NC "No connection", 2 GND (power) "Ground", 3 NC "No connection", 4 IN (power) "Input supply", 5 OUT (power) "Output of the regulator, any output capacitor >= 0.47 uF can be used for stability."

## TPS71530QDCKRQ1
designator U?
Single Output Automotive LDO, 50 mA, Fixed 3 V Output, 3 to 24 V Input, 5-pin SC70 (DCK), -40 to 125 degC, Green (RoHS & no Sb/Br); Manufacturer: Texas Instruments; PartNumber: TPS71530QDCKRQ1; Accuracy(%): 4; Fixed Output Options(V): 3; Iout(Max)(A): 0.05; Iq(Typ)(mA): 0.003; SubFamily: Single Channel LDO; Vdo(Typ)(mV): 415; Vin(Max)(V): 24; DatasheetVersion: SGLS272F; PackageVersion: 4093553-3/G; PackageReference: DCK5; PackageDescription: 5-Pin Plastic Small-Outline, Body 2 x 1.25 mm, Pitch 0.65 mm; Supplier 1: Digi-Key; Supplier Part Number 1: 296-23436-2-ND; Supplier 2: Digi-Key; Supplier Part Number 2: 296-23436-1-ND; Supplier 3: Digi-Key; Supplier Part Number 3: 296-23436-6-ND; Supplier 4: Newark; Supplier Part Number 4: 73J8408; Supplier 5: Mouser; Supplier Part Number 5: 595-TPS71530QDCKRQ1; Eco-Plan: Green (RoHS & no Sb/Br); Vin(Min)(V): 3; Vout Adj(Max)(V): 3; Vout Adj(Min)(V): 3; Mounting Technology: Surface Mount; Code_JEDEC: MO-203; ComponentLink1Description: Manufacturer URL; ComponentLink1URL: http://www.ti.com/; ComponentLink2Description: Datasheet; ComponentLink2URL: http://www.ti.com/general/docs/lit/getliterature.tsp?genericPartNumber=TPS71530-Q1&fileType=pdf; ComponentLink3Description: Package Specification; ComponentLink3URL: http://www.ti.com/litv/pdf/mpds025f
footprint TI-DCK5_V (SOT23, 5-Leads, Body 2x1.25mm, Pitch 0.65mm)
pins: 1 NC "No connection", 2 GND (power) "Ground", 3 NC "No connection", 4 IN (power) "Input supply", 5 OUT (power) "Output of the regulator, any output capacitor >= 0.47 uF can be used for stability."

## TPS71533DCKR
designator U?
Single Output LDO, 50 mA, Fixed 3.3 V Output, 3 to 24 V Input, 5-pin SC70 (DCK), -40 to 85 degC, Green (RoHS & no Sb/Br); Manufacturer: Texas Instruments; PartNumber: TPS71533DCKR; Accuracy(%): 4; Fixed Output Options(V): 3.3; Iout(Max)(A): 0.05; Iq(Typ)(mA): 0.003; SubFamily: Single Channel LDO; Vdo(Typ)(mV): 415; Vin(Max)(V): 24; Vin(Min)(V): 3; DatasheetVersion: SLVS338P; PackageVersion: 4093553-3/G; PackageReference: DCK5; PackageDescription: 5-Pin Plastic Small-Outline, Body 2 x 1.25 mm, Pitch 0.65 mm; Supplier 1: Digi-Key; Supplier Part Number 1: 296-12008-2-ND; Supplier 2: Digi-Key; Supplier Part Number 2: 296-12008-1-ND; Supplier 3: Digi-Key; Supplier Part Number 3: 296-12008-6-ND; Supplier 4: Farnell; Supplier Part Number 4: 1135383RL; Supplier 5: Farnell; Supplier Part Number 5: 1135383; Supplier 6: Newark; Supplier Part Number 6: 77C0815; Supplier 7: Mouser; Supplier Part Number 7: 595-TPS71533DCKR; Eco-Plan: Green (RoHS & no Sb/Br); Vout Adj(Max)(V): 3.3; Vout Adj(Min)(V): 3.3; Mounting Technology: Surface Mount; Code_JEDEC: MO-203; ComponentLink1Description: Manufacturer URL; ComponentLink1URL: http://www.ti.com/; ComponentLink2Description: Datasheet; ComponentLink2URL: http://www.ti.com/general/docs/lit/getliterature.tsp?genericPartNumber=TPS71533&fileType=pdf; ComponentLink3Description: Package Specification; ComponentLink3URL: http://www.ti.com/litv/pdf/mpds025f
footprint TI-DCK5_V (SOT23, 5-Leads, Body 2x1.25mm, Pitch 0.65mm)
pins: 1 NC "No connection", 2 GND (power) "Ground", 3 NC "No connection", 4 IN (power) "Input supply", 5 OUT (power) "Output of the regulator, any output capacitor >= 0.47 uF can be used for stability."

## TPS71533DCKRG4
designator U?
Single Output LDO, 50 mA, Fixed 3.3 V Output, 3 to 24 V Input, 5-pin SC70 (DCK), -40 to 85 degC, Green (RoHS & no Sb/Br); Manufacturer: Texas Instruments; PartNumber: TPS71533DCKRG4; Accuracy(%): 4; Fixed Output Options(V): 3.3; Iout(Max)(A): 0.05; Iq(Typ)(mA): 0.003; SubFamily: Single Channel LDO; Vdo(Typ)(mV): 415; Vin(Max)(V): 24; Vin(Min)(V): 3; DatasheetVersion: SLVS338P; PackageVersion: 4093553-3/G; PackageReference: DCK5; PackageDescription: 5-Pin Plastic Small-Outline, Body 2 x 1.25 mm, Pitch 0.65 mm; Supplier 1: Digi-Key; Supplier Part Number 1: TPS71533DCKRG4-ND; Supplier 2: Newark; Supplier Part Number 2: 24K6084; Supplier 3: Mouser; Supplier Part Number 3: 595-TPS71533DCKRG4; Eco-Plan: Green (RoHS & no Sb/Br); Vout Adj(Max)(V): 3.3; Vout Adj(Min)(V): 3.3; Mounting Technology: Surface Mount; Code_JEDEC: MO-203; ComponentLink1Description: Manufacturer URL; ComponentLink1URL: http://www.ti.com/; ComponentLink2Description: Datasheet; ComponentLink2URL: http://www.ti.com/general/docs/lit/getliterature.tsp?genericPartNumber=TPS71533&fileType=pdf; ComponentLink3Description: Package Specification; ComponentLink3URL: http://www.ti.com/litv/pdf/mpds025f
footprint TI-DCK5_V (SOT23, 5-Leads, Body 2x1.25mm, Pitch 0.65mm)
pins: 1 NC "No connection", 2 GND (power) "Ground", 3 NC "No connection", 4 IN (power) "Input supply", 5 OUT (power) "Output of the regulator, any output capacitor >= 0.47 uF can be used for stability."

## TPS71533QDCKRQ1
designator U?
Single Output Automotive LDO, 50 mA, Fixed 3.3 V Output, 3 to 24 V Input, 5-pin SC70 (DCK), -40 to 125 degC, Green (RoHS & no Sb/Br); Manufacturer: Texas Instruments; PartNumber: TPS71533QDCKRQ1; Accuracy(%): 4; Fixed Output Options(V): 3.3; Iout(Max)(A): 0.05; Iq(Typ)(mA): 0.003; SubFamily: Single Channel LDO; Vdo(Typ)(mV): 415; Vin(Max)(V): 24; Vin(Min)(V): 3; DatasheetVersion: SGLS272F; PackageVersion: 4093553-3/G; PackageReference: DCK5; PackageDescription: 5-Pin Plastic Small-Outline, Body 2 x 1.25 mm, Pitch 0.65 mm; Supplier 1: Digi-Key; Supplier Part Number 1: 296-20667-2-ND; Supplier 2: Digi-Key; Supplier Part Number 2: 296-20667-1-ND; Supplier 3: Digi-Key; Supplier Part Number 3: 296-20667-6-ND; Supplier 4: Newark; Supplier Part Number 4: 73J8409; Supplier 5: Mouser; Supplier Part Number 5: 595-TPS71533QDCKRQ1; Eco-Plan: Green (RoHS & no Sb/Br); Vout Adj(Max)(V): 3.3; Vout Adj(Min)(V): 3.3; Mounting Technology: Surface Mount; Code_JEDEC: MO-203; ComponentLink1Description: Manufacturer URL; ComponentLink1URL: http://www.ti.com/; ComponentLink2Description: Datasheet; ComponentLink2URL: http://www.ti.com/general/docs/lit/getliterature.tsp?genericPartNumber=TPS71533-Q1&fileType=pdf; ComponentLink3Description: Package Specification; ComponentLink3URL: http://www.ti.com/litv/pdf/mpds025f
footprint TI-DCK5_V (SOT23, 5-Leads, Body 2x1.25mm, Pitch 0.65mm)
pins: 1 NC "No connection", 2 GND (power) "Ground", 3 NC "No connection", 4 IN (power) "Input supply", 5 OUT (power) "Output of the regulator, any output capacitor >= 0.47 uF can be used for stability."

## TPS71550DCKR
designator U?
Single Output LDO, 50 mA, Fixed 5 V Output, 3 to 24 V Input, 5-pin SC70 (DCK), -40 to 85 degC, Green (RoHS & no Sb/Br); Manufacturer: Texas Instruments; PartNumber: TPS71550DCKR; Accuracy(%): 4; Fixed Output Options(V): 5; Iout(Max)(A): 0.05; Iq(Typ)(mA): 0.003; SubFamily: Single Channel LDO; Vdo(Typ)(mV): 415; Vin(Max)(V): 24; Vin(Min)(V): 3; DatasheetVersion: SLVS338P; PackageVersion: 4093553-3/G; PackageReference: DCK5; PackageDescription: 5-Pin Plastic Small-Outline, Body 2 x 1.25 mm, Pitch 0.65 mm; Supplier 1: Digi-Key; Supplier Part Number 1: 296-15046-2-ND; Supplier 2: Digi-Key; Supplier Part Number 2: 296-15046-1-ND; Supplier 3: Digi-Key; Supplier Part Number 3: 296-15046-6-ND; Supplier 4: Farnell; Supplier Part Number 4: 1652373; Supplier 5: Farnell; Supplier Part Number 5: 1652373RL; Supplier 6: Newark; Supplier Part Number 6: 34H2504; Supplier 7: Mouser; Supplier Part Number 7: 595-TPS71550DCKR; Eco-Plan: Green (RoHS & no Sb/Br); Vout Adj(Max)(V): 5; Vout Adj(Min)(V): 5; Mounting Technology: Surface Mount; Code_JEDEC: MO-203; ComponentLink1Description: Manufacturer URL; ComponentLink1URL: http://www.ti.com/; ComponentLink2Description: Datasheet; ComponentLink2URL: http://www.ti.com/general/docs/lit/getliterature.tsp?genericPartNumber=TPS71550&fileType=pdf; ComponentLink3Description: Package Specification; ComponentLink3URL: http://www.ti.com/litv/pdf/mpds025f
footprint TI-DCK5_V (SOT23, 5-Leads, Body 2x1.25mm, Pitch 0.65mm)
pins: 1 NC "No connection", 2 GND (power) "Ground", 3 NC "No connection", 4 IN (power) "Input supply", 5 OUT (power) "Output of the regulator, any output capacitor >= 0.47 uF can be used for stability."

## TPS71550DCKRG4
designator U?
Single Output LDO, 50 mA, Fixed 5 V Output, 3 to 24 V Input, 5-pin SC70 (DCK), -40 to 85 degC, Green (RoHS & no Sb/Br); Manufacturer: Texas Instruments; PartNumber: TPS71550DCKRG4; Accuracy(%): 4; Fixed Output Options(V): 5; Iout(Max)(A): 0.05; Iq(Typ)(mA): 0.003; SubFamily: Single Channel LDO; Vdo(Typ)(mV): 415; Vin(Max)(V): 24; Vin(Min)(V): 3; DatasheetVersion: SLVS338P; PackageVersion: 4093553-3/G; PackageReference: DCK5; PackageDescription: 5-Pin Plastic Small-Outline, Body 2 x 1.25 mm, Pitch 0.65 mm; Supplier 1: Digi-Key; Supplier Part Number 1: TPS71550DCKRG4-ND; Supplier 2: Newark; Supplier Part Number 2: 24K6085; Supplier 3: Mouser; Supplier Part Number 3: 595-TPS71550DCKRG4; Eco-Plan: Green (RoHS & no Sb/Br); Vout Adj(Max)(V): 5; Vout Adj(Min)(V): 5; Mounting Technology: Surface Mount; Code_JEDEC: MO-203; ComponentLink1Description: Manufacturer URL; ComponentLink1URL: http://www.ti.com/; ComponentLink2Description: Datasheet; ComponentLink2URL: http://www.ti.com/general/docs/lit/getliterature.tsp?genericPartNumber=TPS71550&fileType=pdf; ComponentLink3Description: Package Specification; ComponentLink3URL: http://www.ti.com/litv/pdf/mpds025f
footprint TI-DCK5_V (SOT23, 5-Leads, Body 2x1.25mm, Pitch 0.65mm)
pins: 1 NC "No connection", 2 GND (power) "Ground", 3 NC "No connection", 4 IN (power) "Input supply", 5 OUT (power) "Output of the regulator, any output capacitor >= 0.47 uF can be used for stability."

## TPS71550QDCKRQ1
designator U?
Single Output Automotive LDO, 50 mA, Fixed 5 V Output, 3 to 24 V Input, 5-pin SC70 (DCK), -40 to 125 degC, Green (RoHS & no Sb/Br); Manufacturer: Texas Instruments; PartNumber: TPS71550QDCKRQ1; Accuracy(%): 4; Fixed Output Options(V): 5; Iout(Max)(A): 0.05; Iq(Typ)(mA): 0.003; SubFamily: Single Channel LDO; Vdo(Typ)(mV): 415; Vin(Max)(V): 24; Vin(Min)(V): 3; DatasheetVersion: SGLS272F; PackageVersion: 4093553-3/G; PackageReference: DCK5; PackageDescription: 5-Pin Plastic Small-Outline, Body 2 x 1.25 mm, Pitch 0.65 mm; Supplier 1: Digi-Key; Supplier Part Number 1: 296-18037-2-ND; Supplier 2: Digi-Key; Supplier Part Number 2: 296-18037-1-ND; Supplier 3: Digi-Key; Supplier Part Number 3: 296-18037-6-ND; Supplier 4: Newark; Supplier Part Number 4: 73J8410; Supplier 5: Mouser; Supplier Part Number 5: 595-TPS71550QDCKRQ1; Eco-Plan: Green (RoHS & no Sb/Br); Vout Adj(Max)(V): 5; Vout Adj(Min)(V): 5; Mounting Technology: Surface Mount; Code_JEDEC: MO-203; ComponentLink1Description: Manufacturer URL; ComponentLink1URL: http://www.ti.com/; ComponentLink2Description: Datasheet; ComponentLink2URL: http://www.ti.com/general/docs/lit/getliterature.tsp?genericPartNumber=TPS71550-Q1&fileType=pdf; ComponentLink3Description: Package Specification; ComponentLink3URL: http://www.ti.com/litv/pdf/mpds025f
footprint TI-DCK5_V (SOT23, 5-Leads, Body 2x1.25mm, Pitch 0.65mm)
pins: 1 NC "No connection", 2 GND (power) "Ground", 3 NC "No connection", 4 IN (power) "Input supply", 5 OUT (power) "Output of the regulator, any output capacitor >= 0.47 uF can be used for stability."

## TPS71701DCKR
designator U?
Single Output LDO, 150 mA, Adjustable 0.9 to 6.2 V Output, 2.5 to 6.5 V Input, with High-Bandwidth PSRR, 5-pin SC70 (DCK), -40 to 125 degC, Green (RoHS & no Sb/Br); Manufacturer: Texas Instruments; PartNumber: TPS71701DCKR; Accuracy(%): 3; Iout(Max)(A): 0.15; Iq(Typ)(mA): 0.05; SubFamily: Single Channel LDO; Vdo(Typ)(mV): 170; Vin(Max)(V): 6.5; Vin(Min)(V): 2.5; Vout Adj(Max)(V): 6.2; Vout Adj(Min)(V): 0.9; DatasheetVersion: SBVS068G; PackageVersion: 4093553-3/G; PackageReference: DCK5; PackageDescription: 5-Pin Plastic Small-Outline, Body 2 x 1.25 mm, Pitch 0.65 mm; Supplier 1: Digi-Key; Supplier Part Number 1: 296-22896-2-ND; Supplier 2: Digi-Key; Supplier Part Number 2: 296-22896-1-ND; Supplier 3: Digi-Key; Supplier Part Number 3: 296-22896-6-ND; Supplier 4: Newark; Supplier Part Number 4: 65M6354; Supplier 5: Mouser; Supplier Part Number 5: 595-TPS71701DCKR; Eco-Plan: Green (RoHS & no Sb/Br); Mounting Technology: Surface Mount; Code_JEDEC: MO-203; ComponentLink1Description: Manufacturer URL; ComponentLink1URL: http://www.ti.com/; ComponentLink2Description: Datasheet; ComponentLink2URL: http://www.ti.com/general/docs/lit/getliterature.tsp?genericPartNumber=TPS71701&fileType=pdf; ComponentLink3Description: Package Specification; ComponentLink3URL: http://www.ti.com/litv/pdf/mpds025f
footprint TI-DCK5_V (SOT23, 5-Leads, Body 2x1.25mm, Pitch 0.65mm)
pins: 1 IN (power) "Input pin. A small capacitor is needed from this pin to ground to assure stability. Typical input capacitor = 1.0uF. Both input and output capacitor grounds should be tied back to the IC ground with no significant impedance (See Datasheet)", 2 GND (power) "Ground pin.", 3 EN (in) "Driving the enable pin (EN) over 1.2V turns on the regulator. Driving this pin below 0.4V puts the regulator into shutdown mode, reducing operating current to 18nA typical.", 4 FB (in) "Feedback pin (FB) for adjustable versions", 5 OUT (power) "Regulated output voltage pin. A small 1-uF ceramic capacitor is needed from this pin to ground to assure stability.See Input and Output Capacitor Requirements in the Application Information section for more details."